# Altium footprint library Common-Parts-Library.PcbLib: 530 footprints (part 19 of 34)
Each footprint in its own frame and in the unit in brackets; x right, y up, seen from the top. Pads: shape width x height; smd on the part's side, far side on the other; paste and mask are expansions set on the pad; w line width, h text height; cw(c..) or ccw(c..) is an arc to the next point about the centre after c.
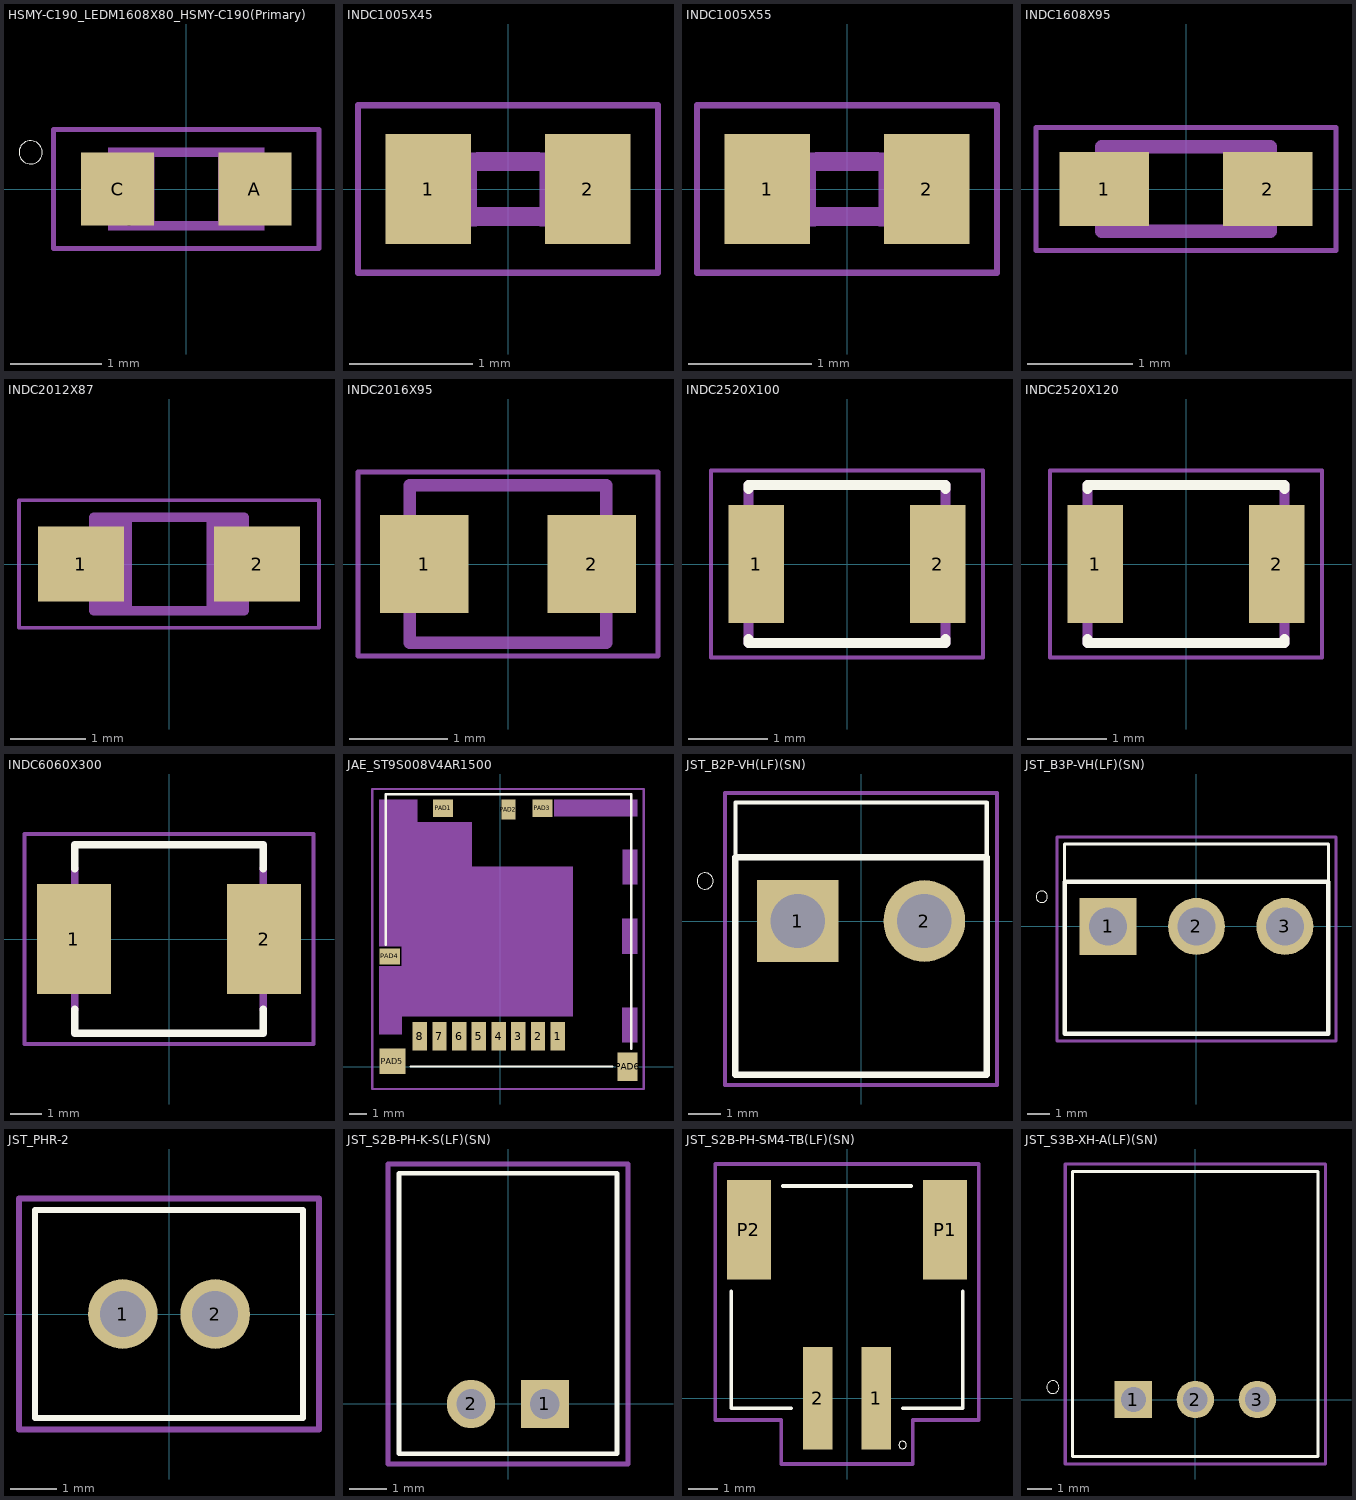
[diagram p18: the footprints below, top view; thin cyan lines are the x and y axes]

## HSMY-C190_LEDM1608X80_HSMY-C190(Primary) [mm]
pads (2):
  rect 0.8x0.8 smd: A(0.75,0) C(-0.75,0)
Top Overlay:
  circle w0: c-1.7,0.4 r0.127
Mechanical 1:
  circle w0.051: c-0.625,-0.35 r0.075
  region: 0.551,0.176 0.551,0.275 0.65,0.275 0.65,0.176
  region: 0.55,-0.275 0.55,-0.176 0.651,-0.176 0.651,-0.275
  region: 0.35,-0.275 0.35,0.274 0.576,0.274 0.576,-0.275
  region: 0.351,0.251 0.351,0.449 0.851,0.449 0.851,0.251
  region: 0.35,-0.45 0.35,-0.251 0.851,-0.251 0.851,-0.45
  region: -0.577,-0.452 -0.577,0.451 -0.351,0.451 -0.351,-0.452
  region: -0.85,0.25 -0.85,0.451 -0.551,0.451 -0.551,0.25
  region: -0.727,-0.452 -0.727,-0.4 -0.35,-0.4 -0.35,-0.452
  region: -0.601,-0.276 -0.601,-0.225 -0.55,-0.225 -0.55,-0.276
  region: -0.851,-0.451 -0.851,-0.249 -0.701,-0.249 -0.701,-0.451
  lines w0.05: -1.45,-0.65 -1.45,0.65 1.45,0.65 1.45,-0.65 -1.45,-0.65
  lines w0.051: 0.825,-0.275 cw(c0.825,0) 0.825,0.275
  lines w0.102: -0.8,-0.3 ccw(c-0.826,0) -0.8,0.3 ; -0.375,-0.4 0.35,-0.4 ; -0.35,0.4 0.35,0.4

## INDC1005X45 [mm]
pads (2):
  rect 0.7x0.9 smd: 1(-0.65,0) 2(0.65,0)
Mechanical 1:
  region: 0.259,0.295 0.559,0.295 0.559,-0.305 0.259,-0.305
  region: -0.554,0.295 -0.254,0.295 -0.254,-0.305 -0.554,-0.305
  lines w0.051: -1.223,-0.683 -1.223,0.683 1.223,0.683 1.223,-0.683 -1.223,-0.683
  lines w0.152: -0.245,-0.224 0.245,-0.224 ; -0.245,0.224 0.245,0.224

## INDC1005X55 [mm]
pads (2):
  rect 0.7x0.9 smd: 1(-0.65,0) 2(0.65,0)
Mechanical 1:
  region: 0.259,0.295 0.559,0.295 0.559,-0.305 0.259,-0.305
  region: -0.556,0.295 -0.254,0.295 -0.254,-0.306 -0.556,-0.306
  lines w0.051: -1.223,-0.683 -1.223,0.683 1.223,0.683 1.223,-0.683 -1.223,-0.683
  lines w0.152: -0.245,-0.224 0.245,-0.224 ; -0.245,0.224 0.245,0.224

## INDC1608X95 [mm]
pads (2):
  rect 0.85x0.7 smd: 1(-0.775,0) 2(0.775,0)
Mechanical 1:
  region: 0.401,0.4 0.8,0.4 0.8,-0.401 0.401,-0.401
  region: -0.802,0.4 -0.4,0.4 -0.4,-0.401 -0.802,-0.401
  lines w0.051: -1.423,-0.583 -1.423,0.583 1.423,0.583 1.423,-0.583 -1.423,-0.583
  lines w0.127: -0.8,-0.4 -0.8,0.4 0.8,0.4 0.8,-0.4 -0.8,-0.4

## INDC2012X87 [mm]
pads (2):
  rect 1.15x1 smd: 1(-1.175,0) 2(1.175,0)
Mechanical 1:
  region: 0.501,0.625 1,0.625 1,-0.626 0.501,-0.626
  region: -1.001,0.625 -0.5,0.625 -0.5,-0.626 -1.001,-0.626
  lines w0.051: -2,-0.85 -2,0.85 2,0.85 2,-0.85 -2,-0.85
  lines w0.127: -1,-0.625 -1,0.625 1,0.625 1,-0.625 -1,-0.625

## INDC2016X95 [mm]
pads (2):
  rect 0.9x1 smd: 1(-0.85,0) 2(0.85,0)
Mechanical 1:
  lines w0.051: -1.523,-0.933 -1.523,0.933 1.523,0.933 1.523,-0.933 -1.523,-0.933
  lines w0.127: -1,-0.8 -1,0.8 1,0.8 1,-0.8 -1,-0.8

## INDC2520X100 [mm]
pads (2):
  rect 0.7x1.5 smd: 1(-1.15,0) 2(1.15,0)
Top Overlay:
  lines w0.127: -1.25,-0.95 -1.25,-1 1.25,-1 1.25,-0.95 ; -1.25,0.95 -1.25,1 1.25,1 1.25,0.95
Mechanical 1:
  lines w0.051: -1.723,-1.183 -1.723,1.183 1.723,1.183 1.723,-1.183 -1.723,-1.183
  lines w0.127: -1.25,-1 -1.25,1 1.25,1 1.25,-1 -1.25,-1

## INDC2520X120 [mm]
pads (2):
  rect 0.7x1.5 smd: 1(-1.15,0) 2(1.15,0)
Top Overlay:
  lines w0.127: -1.25,-0.95 -1.25,-1 1.25,-1 1.25,-0.95 ; -1.25,0.95 -1.25,1 1.25,1 1.25,0.95
Mechanical 1:
  lines w0.051: -1.723,-1.183 -1.723,1.183 1.723,1.183 1.723,-1.183 -1.723,-1.183
  lines w0.127: -1.25,-1 -1.25,1 1.25,1 1.25,-1 -1.25,-1

## INDC6060X300 [mm]
pads (2):
  rect 2.35x3.5 smd: 1(-3.025,0) 2(3.025,0)
Top Overlay:
  lines w0.254: -3,-2.25 -3,-3 3,-3 3,-2.25 ; -3,2.25 -3,3 3,3 3,2.25
Mechanical 1:
  region: 3.006,1.25 3.5,1.25 3.5,-1.252 3.006,-1.252
  region: -3.505,1.25 -3,1.25 -3,-1.252 -3.505,-1.252
  lines w0.127: -4.6,-3.35 -4.6,3.35 4.6,3.35 4.6,-3.35 -4.6,-3.35
  lines w0.254: -3,-2.25 -3,2.25 ; 3,-2.25 3,2.25

## JAE_ST9S008V4AR1500 [mm]
pads (14):
  rect 0.8x1.6 smd: 1(3.2,1.7) 2(2.1,1.7) 3(1,1.7) 4(-0.1,1.7) 5(-1.2,1.7) 6(-2.3,1.7) 7(-3.4,1.7) 8(-4.5,1.7)
  rect 1.1x0.95 smd: PAD1(-3.2,14.425) PAD3(2.35,14.425)
  rect 0.8x1.1 smd: PAD2(0.45,14.35)
  rect 1.15x0.9 smd: PAD4(-6.175,6.15)
  rect 1.45x1.4 smd: PAD5(-6.025,0.3)
  rect 1.1x1.6 smd: PAD6(7.1,0)
Top Overlay:
  lines w0.127: -6.4,6.8 -6.4,15.2 7.3,15.2 7.3,1 ; -5,0 6.25,0
Mechanical 1:
  region: 6.815,3.3 7.65,3.3 7.65,1.353 6.815,1.353
  region: 6.81,8.25 7.65,8.25 7.65,6.309 6.81,6.309
  region: 6.823,12.1 7.65,12.1 7.65,10.184 6.823,10.184
  region: 3.003,14.9 7.65,14.9 7.65,13.965 3.003,13.965
  region: -6.768,5.6 -5.5,5.6 -5.5,1.805 -6.768,1.805
  region: -5.52,6.7 0,6.7 0,2.81 -5.52,2.81
  region: -6.767,11.15 0,11.15 0,6.717 -6.767,6.717
  region: 0,11.15 4.05,11.15 4.05,2.805 0,2.805
  region: -6.757,13.65 -1.6,13.65 -1.6,11.162 -6.757,11.162
  region: -6.765,14.9 -4.65,14.9 -4.65,13.68 -6.765,13.68
  lines w0.127: -7.15,-1.25 -7.15,15.5 8,15.5 8,-1.25 -7.15,-1.25

## JST_B2P-VH(LF)(SN) [mm]
pads (2):
  rect 2.55x2.55 hole 1.7: 1(-1.98,0)
  round 2.55 hole 1.7: 2(1.98,0)
Top Overlay:
  circle w0: c-4.875,1.25 r0.254
  lines w0.127: -3.93,2 -3.93,3.7 3.93,3.7 3.93,2
  lines w0.203: -3.93,-4.8 -3.93,2 3.93,2 3.93,-4.8 -3.93,-4.8
Mechanical 1:
  lines w0.127: -4.25,-5.125 -4.25,4 4.25,4 4.25,-5.125 -4.25,-5.125

## JST_B3P-VH(LF)(SN) [mm]
pads (3):
  rect 2.55x2.55 hole 1.7: 1(-3.96,0)
  round 2.55 hole 1.7: 2(0,0) 3(3.96,0)
Top Overlay:
  circle w0: c-6.935,1.33 r0.254
  lines w0.127: -5.91,2 -5.91,3.7 5.91,3.7 5.91,2
  lines w0.203: -5.91,-4.8 -5.91,2 5.91,2 5.91,-4.8 -5.91,-4.8
Mechanical 1:
  lines w0.127: -6.25,-5.125 6.25,-5.125 6.25,4 -6.25,4 -6.25,-5.125

## JST_PHR-2 [mm]
pads (2):
  round 1.508 hole 1: 1(-1,0) 2(1,0)
Top Overlay:
  lines w0.127: -2.9,-2.25 -2.9,2.25 2.9,2.25 2.9,-2.25 -2.9,-2.25
Mechanical 1:
  lines w0.127: -3.25,-2.5 -3.25,2.5 3.25,2.5 3.25,-2.5 -3.25,-2.5

## JST_S2B-PH-K-S(LF)(SN) [mm]
pads (2):
  rect 1.308x1.308 hole 0.8: 1(1,0)
  round 1.308 hole 0.8: 2(-1,0)
Top Overlay:
  lines w0.127: -2.95,-1.35 -2.95,6.25 2.95,6.25 2.95,-1.35 -2.95,-1.35
Mechanical 1:
  lines w0.127: -3.25,-1.625 -3.25,6.5 3.25,6.5 3.25,-1.625 -3.25,-1.625

## JST_S2B-PH-SM4-TB(LF)(SN) [mm]
pads (4):
  rect 1x3.5 smd: 1(1,0) 2(-1,0)
  rect 1.5x3.4 smd: P1(3.35,5.75) P2(-3.35,5.75)
Top Overlay:
  circle w0: c1.9,-1.6 r0.127
  lines w0.127: -3.95,3.65 -3.95,-0.35 -1.9,-0.35 ; -2.2,7.25 2.2,7.25 ; 1.9,-0.35 3.95,-0.35 3.95,3.65
Mechanical 1:
  lines w0.127: -4.5,-0.75 -4.5,8 4.5,8 4.5,-0.75 2.25,-0.75 2.25,-2.25 -2.25,-2.25 -2.25,-0.75 -4.5,-0.75

## JST_S3B-XH-A(LF)(SN) [mm]
pads (3):
  rect 1.508x1.508 hole 1: 1(-2.5,0)
  round 1.508 hole 1: 2(0,0) 3(2.5,0)
Top Overlay:
  circle w0: c-5.75,0.5 r0.254
  lines w0.127: -4.95,-2.3 -4.95,9.2 4.95,9.2 4.95,-2.3 -4.95,-2.3
Mechanical 1:
  lines w0.127: -5.25,-2.6 -5.25,9.5 5.25,9.5 5.25,-2.6 -5.25,-2.6